# Altium schematic symbol library LED_2pin_noslug.SchLib: 1 symbol
Pins are listed as number, name and electrical type; pins without a type are passive.

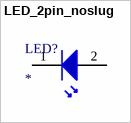
[diagram p0: symbol LED_2pin_noslug]

## LED_2pin_noslug
designator LED?
pins: 1 K "Cathode (K)", 2 A "Anode (A)"